# Altium schematic symbol library C_2p2F.SchLib: 1 symbol
Pins are listed as number, name and electrical type; pins without a type are passive.

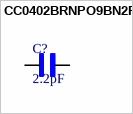
[diagram p0: symbol CC0402BRNPO9BN2R2]

## CC0402BRNPO9BN2R2
designator C?, comment 2.2pF
CAP CER 2.2PF 50V C0G/NPO 0402; MF: YAGEO; MP: CC0402BRNPO9BN2R2; Package: 0402; Price: None; Value: 2.2pF; Availability: »
footprint CAPC1005X55N
pins: 1, 2